# EAGLE library part MKW01Z128 (library psas_c3_team05)
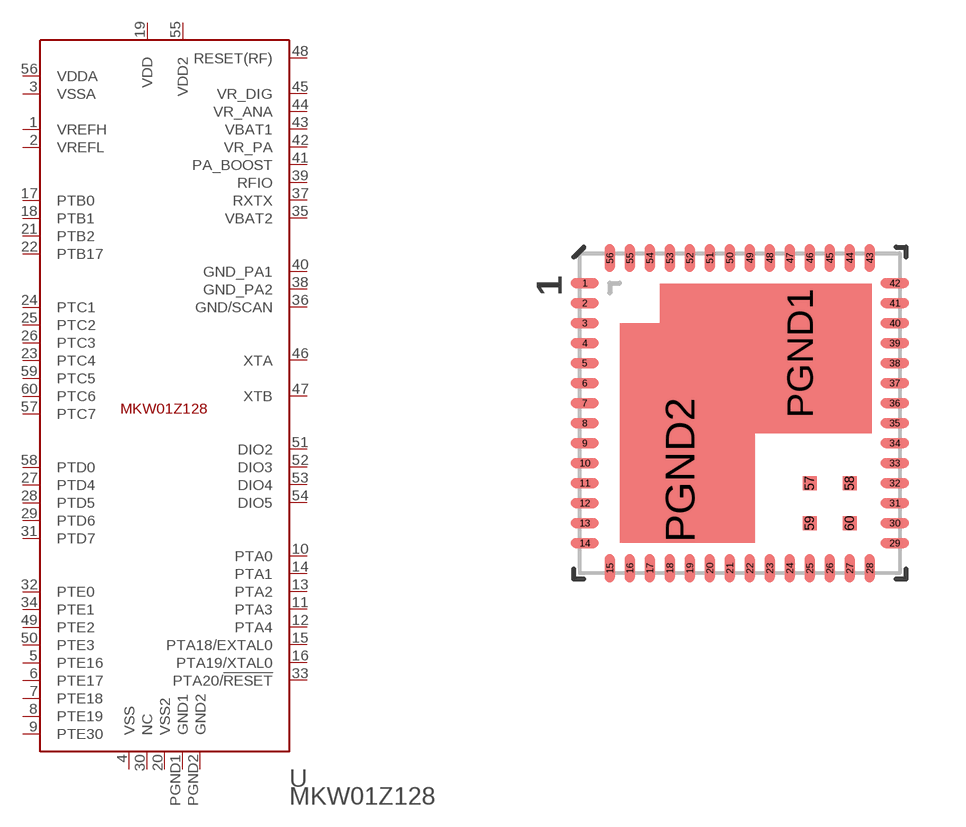
[diagram p9: symbol with the pads of MKW01Z128; footprint MKW01Z128]

Designator prefix -

## MKW01Z128  [MKW01Z128]
1  VREFH  in
2  VREFL  in
3  VSSA  pwr
4  VSS  pwr
5  PTE16
6  PTE17
7  PTE18
8  PTE19
9  PTE30
10  PTA0
11  PTA3
12  PTA4
13  PTA2
14  PTA1
15  PTA18/EXTAL0
16  PTA19/XTAL0
17  PTB0
18  PTB1
19  VDD  pwr
20  VSS2  pwr
21  PTB2
22  PTB17
23  PTC4
24  PTC1
25  PTC2
26  PTC3
27  PTD4
28  PTD5
29  PTD6
30  NC  nc
31  PTD7
32  PTE0
33  PTA20/!RESET
34  PTE1
35  VBAT2  pwr
36  GND/SCAN  pwr
37  RXTX  out
38  GND_PA2  pwr
39  RFIO
40  GND_PA1  pwr
41  PA_BOOST  out
42  VR_PA  out
43  VBAT1  pwr
44  VR_ANA  out
45  VR_DIG  out
46  XTA  pas
47  XTB  pas
48  RESET(RF)  in
49  PTE2
50  PTE3
51  DIO2
52  DIO3
53  DIO4
54  DIO5
55  VDD2  pwr
56  VDDA  pwr
57  PTC7
58  PTD0
59  PTC5
60  PTC6
PGND1  GND1  pwr
PGND2  GND2  pwr

## Footprint MKW01Z128 (pad centres in mm)
smd 0.711 x 0.254: 1 -3.878,3.25; 2 -3.878,2.75; 3 -3.878,2.25; 4 -3.878,1.75; 5 -3.878,1.25; 6 -3.878,0.75; 7 -3.878,0.25; 8 -3.878,-0.25; 9 -3.878,-0.75; 10 -3.878,-1.25; 11 -3.878,-1.75; 12 -3.878,-2.25; 13 -3.878,-2.75; 14 -3.878,-3.25; 29 3.878,-3.25; 30 3.878,-2.75; 31 3.878,-2.25; 32 3.878,-1.75; 33 3.878,-1.25; 34 3.878,-0.75; 35 3.878,-0.25; 36 3.878,0.25; 37 3.878,0.75; 38 3.878,1.25; 39 3.878,1.75; 40 3.878,2.25; 41 3.878,2.75; 42 3.878,3.25
smd 0.254 x 0.711: 15 -3.25,-3.878; 16 -2.75,-3.878; 17 -2.25,-3.878; 18 -1.75,-3.878; 19 -1.25,-3.878; 20 -0.75,-3.878; 21 -0.25,-3.878; 22 0.25,-3.878; 23 0.75,-3.878; 24 1.25,-3.878; 25 1.75,-3.878; 26 2.25,-3.878; 27 2.75,-3.878; 28 3.25,-3.878; 43 3.25,3.878; 44 2.75,3.878; 45 2.25,3.878; 46 1.75,3.878; 47 1.25,3.878; 48 0.75,3.878; 49 0.25,3.878; 50 -0.25,3.878; 51 -0.75,3.878; 52 -1.25,3.878; 53 -1.75,3.878; 54 -2.25,3.878; 55 -2.75,3.878; 56 -3.25,3.878
smd 0.356 x 0.356: 57 1.75,-1.75; 58 2.75,-1.75; 59 1.75,-2.75; 60 2.75,-2.75
smd 2.5 x 2.5: PGND1 1.5,1.5
smd 2.7 x 2.8: PGND2 -1.5,-1.42